# EAGLE library part LTC6820 (library HyTechDevices2)
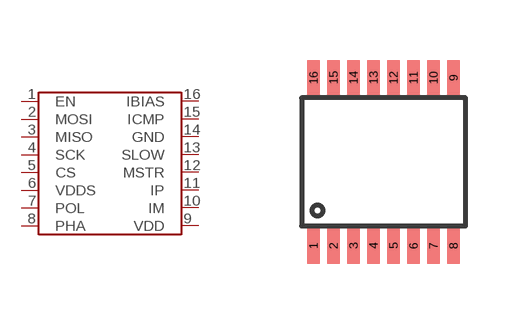
[diagram p37: symbol with the pads of MSOP-16; footprint MSOP-16]

Designator prefix -

## LTC6820  [MSOP-16]
1  EN
2  MOSI
3  MISO
4  SCK
5  CS
6  VDDS
7  POL
8  PHA
9  VDD
10  IM
11  IP
12  MSTR
13  SLOW
14  GND
15  ICMP
16  IBIAS

## Footprint MSOP-16 (pad centres in mm)
smd 0.305 x 0.889: 1 -0.1,-0.5; 2 0.4,-0.5; 3 0.9,-0.5; 4 1.4,-0.5; 5 1.9,-0.5; 6 2.4,-0.5; 7 2.9,-0.5; 8 3.4,-0.5; 9 3.4,3.7; 10 2.9,3.7; 11 2.4,3.7; 12 1.9,3.7; 13 1.4,3.7; 14 0.9,3.7; 15 0.4,3.7; 16 -0.1,3.7